# EAGLE library part 182-037-213R531 (library D-Sub Connectors)
CONN D-SUB RCPT 37POS R/A SOLDER Manufacturer's datasheet <https://media.digikey.com/pdf/Data%20Sheets/Norcomp%20PDFs/182-YYY-213RYY1.pdf>
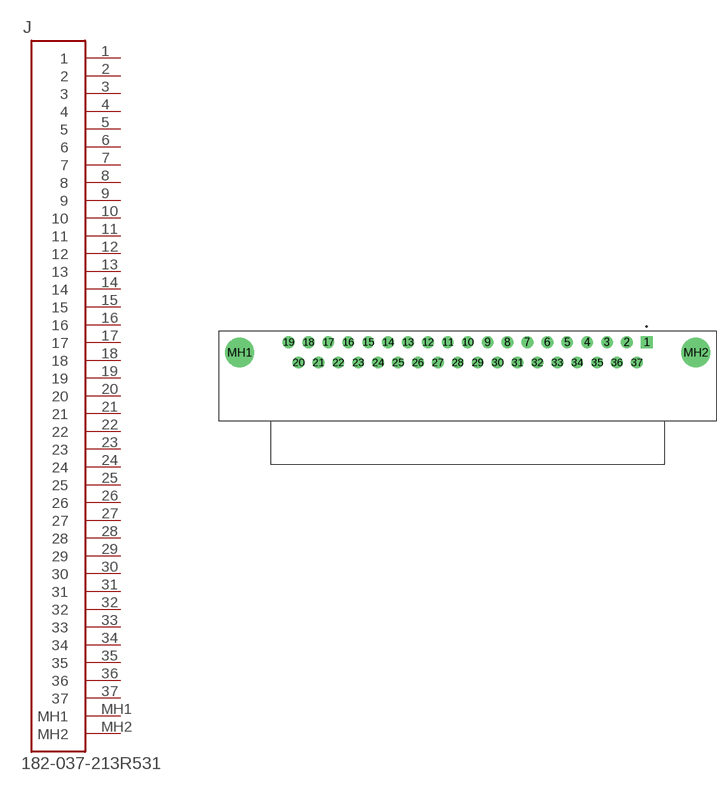
[diagram p7: symbol with the pads of 182-037-213R531; footprint 182-037-213R531]

Designator prefix J

## 182-037-213R531 (CREATED_BY: PCBLayout.com; DIGI_KEY_PART_NUMBER: 182-37FE-ND; MANUFACTURER: NorComp Inc.; MPN: 182-037-213R531)  [182-037-213R531]
1  1  pas
2  2  pas
3  3  pas
4  4  pas
5  5  pas
6  6  pas
7  7  pas
8  8  pas
9  9  pas
10  10  pas
11  11  pas
12  12  pas
13  13  pas
14  14  pas
15  15  pas
16  16  pas
17  17  pas
18  18  pas
19  19  pas
20  20  pas
21  21  pas
22  22  pas
23  23  pas
24  24  pas
25  25  pas
26  26  pas
27  27  pas
28  28  pas
29  29  pas
30  30  pas
31  31  pas
32  32  pas
33  33  pas
34  34  pas
35  35  pas
36  36  pas
37  37  pas
MH1  MH1  pas
MH2  MH2  pas

## Footprint 182-037-213R531 (pad centres in mm)
drill 1.09 square: 1 24.93,1.42
drill 1.09: 2 22.16,1.42; 3 19.39,1.42; 4 16.62,1.42; 5 13.85,1.42; 6 11.08,1.42; 7 8.31,1.42; 8 5.54,1.42; 9 2.77,1.42; 10 0,1.42; 11 -2.77,1.42; 12 -5.54,1.42; 13 -8.31,1.42; 14 -11.08,1.42; 15 -13.85,1.42; 16 -16.62,1.42; 17 -19.39,1.42; 18 -22.16,1.42; 19 -24.93,1.42; 20 -23.545,-1.42; 21 -20.775,-1.42; 22 -18.005,-1.42; 23 -15.235,-1.42; 24 -12.465,-1.42; 25 -9.695,-1.42; 26 -6.925,-1.42; 27 -4.155,-1.42; 28 -1.385,-1.42; 29 1.385,-1.42; 30 4.155,-1.42; 31 6.925,-1.42; 32 9.695,-1.42; 33 12.465,-1.42; 34 15.235,-1.42; 35 18.005,-1.42; 36 20.775,-1.42; 37 23.545,-1.42
drill 3.05: MH1 -31.75,0; MH2 31.75,0